# Altium schematic symbol library CDRon_lib.SchLib: 11 symbols
Pins are listed as number, name and electrical type; pins without a type are passive.

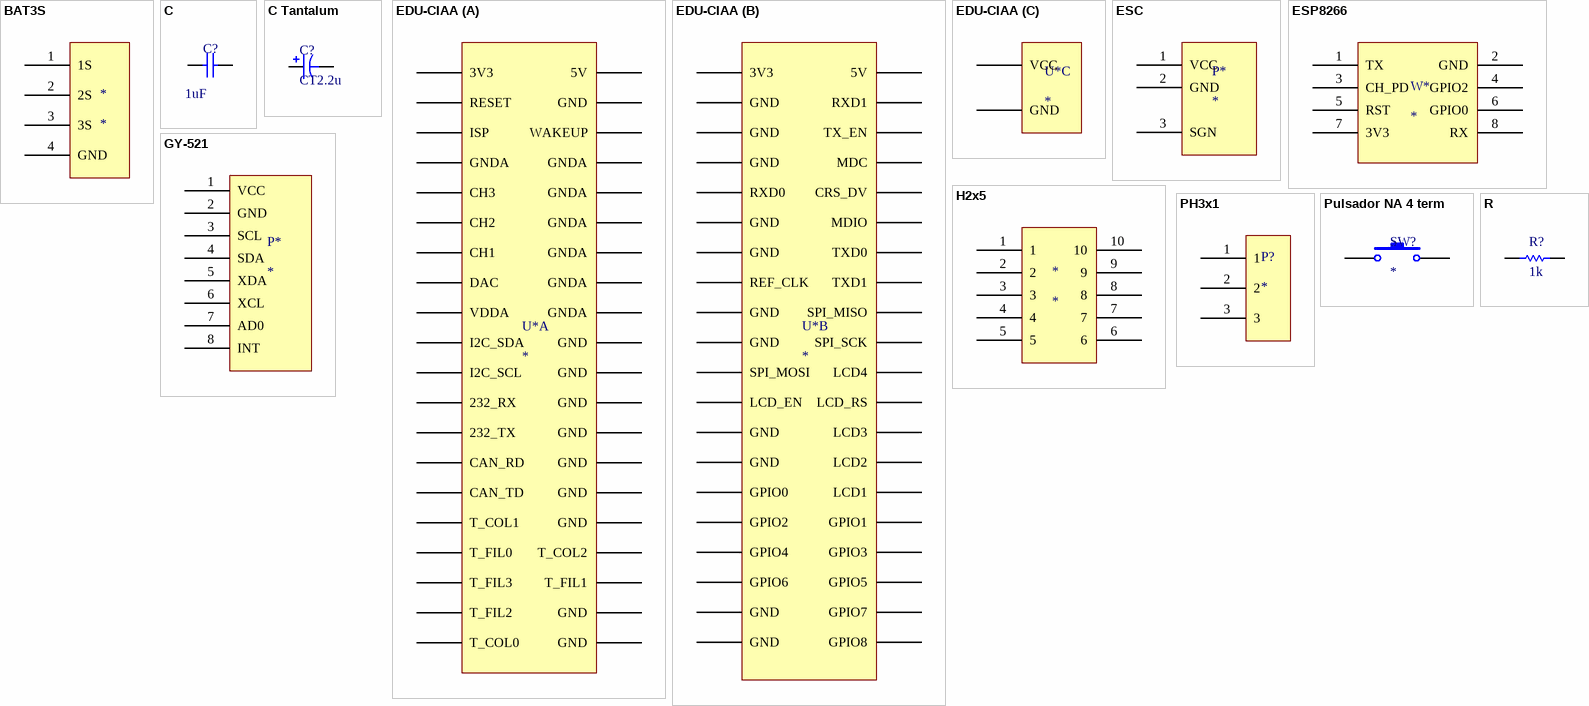
[diagram p0: symbols BAT3S to R]

## BAT3S
designator *
footprint BAT3S
pins: 1 1S, 2 2S, 3 3S, 4 GND

## C
designator C?, comment value 1uF  (hidden comment: C1u)
Cap ceramic
footprint 0805
footprint C 1206
pins: 1, 2

## C Tantalum
designator C?, comment CT2.2u
Tantalum capacitor
footprint Tantalum
pins: 1, 2

## EDU-CIAA
designator U*
footprint EDU-CIAA
part A pins: 1 3V3, 2 5V, 3 RESET, 4 GND, 5 ISP, 6 WAKEUP, 7 GNDA, 8 GNDA, 9 CH3, 10 GNDA, 11 CH2, 12 GNDA, 13 CH1, 14 GNDA, 15 DAC, 16 GNDA, 17 VDDA, 18 GNDA, 19 I2C_SDA, 20 GND, 21 I2C_SCL, 22 GND, 23 232_RX, 24 GND, 25 232_TX, 26 GND, 27 CAN_RD, 28 GND, 29 CAN_TD, 30 GND, 31 T_COL1, 32 GND, 33 T_FIL0, 34 T_COL2, 35 T_FIL3, 36 T_FIL1, 37 T_FIL2, 38 GND, 39 T_COL0, 40 GND
part B pins: 41 3V3, 42 5V, 43 GND, 44 RXD1, 45 GND, 46 TX_EN, 47 GND, 48 MDC, 49 RXD0, 50 CRS_DV, 51 GND, 52 MDIO, 53 GND, 54 TXD0, 55 REF_CLK, 56 TXD1, 57 GND, 58 SPI_MISO, 59 GND, 60 SPI_SCK, 61 SPI_MOSI, 62 LCD4, 63 LCD_EN, 64 LCD_RS, 65 GND, 66 LCD3, 67 GND, 68 LCD2, 69 GPIO0, 70 LCD1, 71 GPIO2, 72 GPIO1, 73 GPIO4, 74 GPIO3, 75 GPIO6, 76 GPIO5, 77 GND, 78 GPIO7, 79 GND, 80 GPIO8
part C pins: 81 VCC, 82 GND

## ESC
designator P*
footprint ESC
pins: 1 VCC, 2 GND, 3 SGN

## ESP8266
designator W*
footprint ESP8266
pins: 1 TX, 2 GND, 3 CH_PD, 4 GPIO2, 5 RST, 6 GPIO0, 7 3V3, 8 RX

## GY-521
designator P*
footprint GY-521
pins: 1 VCC, 2 GND, 3 SCL, 4 SDA, 5 XDA, 6 XCL, 7 AD0, 8 INT

## H2x5
designator *
footprint H2x5
pins: 1, 2, 3, 4, 5, 6, 7, 8, 9, 10

## PH3x1
designator P?
pins: 1, 2, 3

## Pulsador NA 4 term
designator SW?
.Creator: G; .PCBCheck: G; .SCHCheck: G
footprint TACT SW
pins: 1, 2

## R
designator R?, comment 1k
Resistencia; .Creator: SR; .PCBCheck: Used; .SCHCheck: Used; Category: Resistencias
footprint R 1206
pins: 1, 2